# Altium integrated library Cypress Clocks & Buffers Clock Distribution.IntLib: 321 symbols (part 13 of 25)
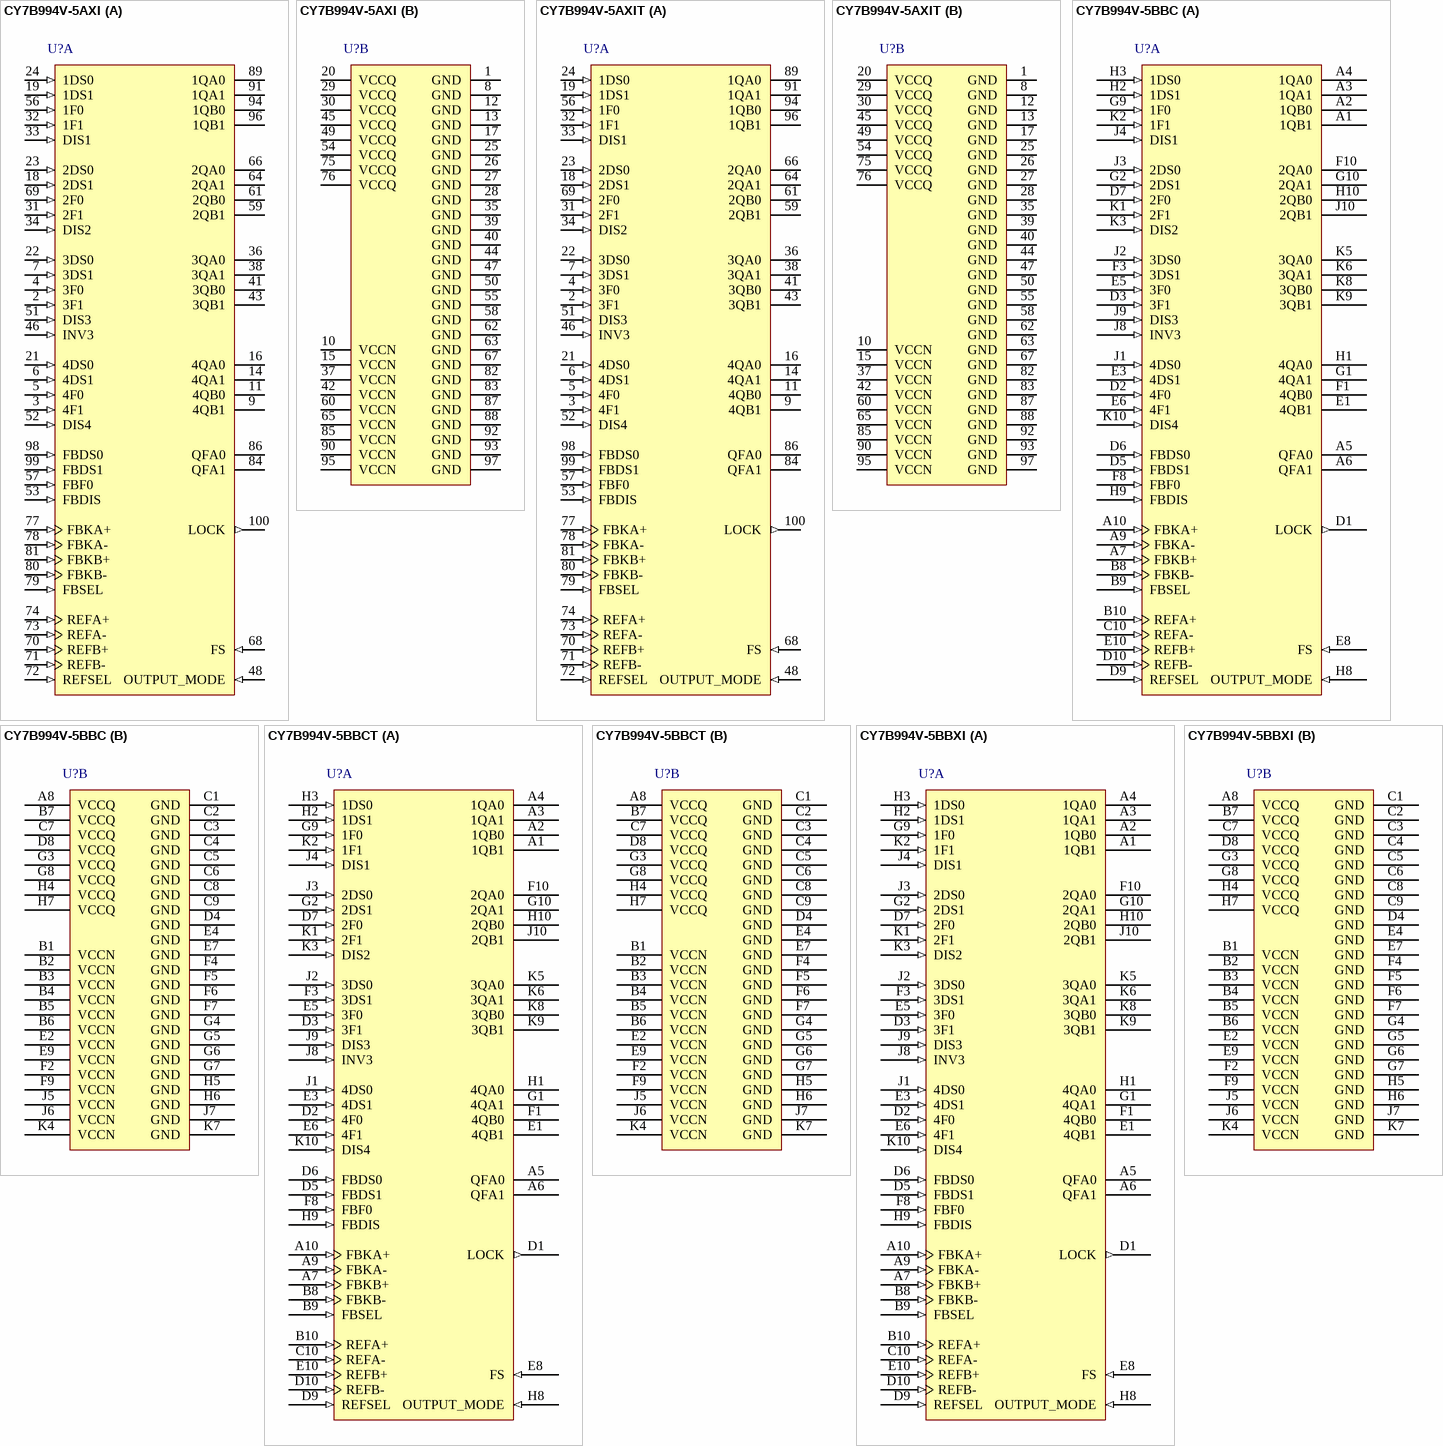
[diagram p28: symbols CY7B994V-5AXI to CY7B994V-5BBXI]

## CY7B994V-5BBCT
designator U?
High Speed Multi Phase PLL Clock Buffer, 3.3 V, 18 Outputs, 24 to 200 MHz, 0 to 70 degC, 100-Pin BGA (BB100), Tape and Reel; Manufacturer: Cypress; PartNumber: CY7B994V-5BBCT; Input Frequency Max. (MHz): 200; Input Frequency Min. (MHz): 24; Max. Operating Voltage (V): 3.6; Min. Operating Voltage (V): 3; No. of Outputs: 18; DatasheetVersion: Rev. *K; PackageVersion: Rev. *E, 08/2012; PackageReference: BB100; PackageDescription: 100-Ball Thin Ball Grid Array, Body 11 x 11 mm, Pitch 1 mm; Supplier 1: Digi-Key; Supplier Part Number 1: CY7B994V-5BBCT-ND; Supplier 2: Mouser; Supplier Part Number 2: 727-CY7B994V5BBCT; Max. Operating Temp. (degreesC): 70; Min. Operating Temp. (degreesC): 0; Output Frequency Max. (MHz): 200; Output Frequency Min. (MHz): 24; Packing: Tape and Reel; Mounting Technology: Surface Mount; ComponentLink1Description: Manufacturer URL; ComponentLink1URL: http://www.cypress.com/; ComponentLink2Description: Datasheet; ComponentLink2URL: http://www.cypress.com/?docID=46967; ComponentLink3Description: Package Specification; ComponentLink3URL: http://www.cypress.com/?docID=39202
footprint CYP-BB100 (BGA, 100-Balls, Body 11x11mm, Pitch 1mm)
part A pins: A1 1QB1 (hiz) "Clock Output. These outputs provide numerous divide and phase select functions determined by the [1:4]DS[0:1] and [1:4]F[0:1] inputs.", A2 1QB0 (hiz) "Clock Output. These outputs provide numerous divide and phase select functions determined by the [1:4]DS[0:1] and [1:4]F[0:1] inputs.", A3 1QA1 (hiz) "Clock Output. These outputs provide numerous divide and phase select functions determined by the [1:4]DS[0:1] and [1:4]F[0:1] inputs.", A4 1QA0 (hiz) "Clock Output. These outputs provide numerous divide and phase select functions determined by the [1:4]DS[0:1] and [1:4]F[0:1] inputs.", A5 QFA0 (hiz) "Clock Feedback Output. This pair of clock outputs is intended to be connected to the FB input. These outputs have numerous divide options and three choices of phase adjustments. The function is determined by the setting of (See Datasheet)", A6 QFA1 (hiz) "Clock Feedback Output. This pair of clock outputs is intended to be connected to the FB input. These outputs have numerous divide options and three choices of phase adjustments. The function is determined by the setting of (See Datasheet)", A7 FBKB+ (in) "Feedback Inputs. One pair of inputs selected by the FBSEL is used to feedback the clock output xQn to the phase detector. The PLL operates such that the rising edges of the reference and feedback signals are aligned in both (See Datasheet)", A9 FBKA- (in) "Feedback Inputs. One pair of inputs selected by the FBSEL is used to feedback the clock output xQn to the phase detector. The PLL operates such that the rising edges of the reference and feedback signals are aligned in both (See Datasheet)", A10 FBKA+ (in) "Feedback Inputs. One pair of inputs selected by the FBSEL is used to feedback the clock output xQn to the phase detector. The PLL operates such that the rising edges of the reference and feedback signals are aligned in both (See Datasheet)", B8 FBKB- (in) "Feedback Inputs. One pair of inputs selected by the FBSEL is used to feedback the clock output xQn to the phase detector. The PLL operates such that the rising edges of the reference and feedback signals are aligned in both (See Datasheet)", B9 FBSEL (in) "Feedback Input Select. When LOW, FBKA inputs are selected. When HIGH, the FBKB inputs are selected. This input has an internal pull-down.", B10 REFA+ (in) "Reference Inputs. These inputs can operate as differential PECL or single-ended TTL. These inputs can operate as differential PECL or single-ended LVTTL input, the complementary input must be left open.", C10 REFA- (in) "Reference Inputs. These inputs can operate as differential PECL or single-ended TTL. These inputs can operate as differential PECL or single-ended LVTTL input, the complementary input must be left open.", D1 LOCK (out) "PLL Lock Indicator. When HIGH, this output indicates the internal PLL is locked to the reference signal. When LOW, the PLL is attempting to acquire lock.", D2 4F0 (in) "Output Phase Function Select. Each pair controls the phase function of the respective bank of outputs (see Table 3 on page 8).", D3 3F1 (in) "Output Phase Function Select. Each pair controls the phase function of the respective bank of outputs (see Table 3 on page 8).", D5 FBDS1 (in) "Feedback Divider Function Select. These inputs determine the function of the QFA0 and QFA1 outputs (see Table 4 on page 8).", D6 FBDS0 (in) "Feedback Divider Function Select. These inputs determine the function of the QFA0 and QFA1 outputs (see Table 4 on page 8).", D7 2F0 (in) "Output Phase Function Select. Each pair controls the phase function of the respective bank of outputs (see Table 3 on page 8).", D9 REFSEL (in) "Reference Select Input. The REFSEL input controls how the reference input is configured. When LOW, it uses the REFA pair as the reference input. When HIGH, it uses the REFB pair as the reference input. This input has an (See Datasheet)", D10 REFB- (in) "Reference Inputs. These inputs can operate as differential PECL or single-ended TTL. These inputs can operate as differential PECL or single-ended LVTTL input, the complementary input must be left open.", E1 4QB1 (hiz) "Clock Output. These outputs provide numerous divide and phase select functions determined by the [1:4]DS[0:1] and [1:4]F[0:1] inputs.", E3 4DS1 (in) "Output Divider Function Select. Each pair controls the divider function of the respective bank of outputs (see Table 4 on page 8).", E5 3F0 (in) "Output Phase Function Select. Each pair controls the phase function of the respective bank of outputs (see Table 3 on page 8).", E6 4F1 (in) "Output Phase Function Select. Each pair controls the phase function of the respective bank of outputs (see Table 3 on page 8).", E8 FS (in) "Frequency Select. This input must be set according to the nominal frequency (fNOM) (see Table 1 on page 7).", E10 REFB+ (in) "Reference Inputs. These inputs can operate as differential PECL or single-ended TTL. These inputs can operate as differential PECL or single-ended LVTTL input, the complementary input must be left open.", F1 4QB0 (hiz) "Clock Output. These outputs provide numerous divide and phase select functions determined by the [1:4]DS[0:1] and [1:4]F[0:1] inputs.", F3 3DS1 (in) "Output Divider Function Select. Each pair controls the divider function of the respective bank of outputs (see Table 4 on page 8).", F8 FBF0 (in) "Feedback Output Phase Function Select. This input determines the phase function of the Feedback bank’s QFA[0:1] outputs (see Table 3 on page 8).", F10 2QA0 (hiz) "Clock Output. These outputs provide numerous divide and phase select functions determined by the [1:4]DS[0:1] and [1:4]F[0:1] inputs.", G1 4QA1 (hiz) "Clock Output. These outputs provide numerous divide and phase select functions determined by the [1:4]DS[0:1] and [1:4]F[0:1] inputs.", G2 2DS1 (in) "Output Divider Function Select. Each pair controls the divider function of the respective bank of outputs (see Table 4 on page 8).", G9 1F0 (in) "Output Phase Function Select. Each pair controls the phase function of the respective bank of outputs (see Table 3 on page 8).", G10 2QA1 (hiz) "Clock Output. These outputs provide numerous divide and phase select functions determined by the [1:4]DS[0:1] and [1:4]F[0:1] inputs.", H1 4QA0 (hiz) "Clock Output. These outputs provide numerous divide and phase select functions determined by the [1:4]DS[0:1] and [1:4]F[0:1] inputs.", H2 1DS1 (in) "Output Divider Function Select. Each pair controls the divider function of the respective bank of outputs (see Table 4 on page 8).", H3 1DS0 (in) "Output Divider Function Select. Each pair controls the divider function of the respective bank of outputs (see Table 4 on page 8).", H8 OUTPUT_MODE (in) "Output Mode. This pin determines the clock outputs’ disable state. When this input is HIGH, the clock outputs disable to high impedance (High Z). When this input is LOW, the clock outputs disable to “HOLD-OFF” (See Datasheet)", H9 FBDIS (in) "Feedback Disable. This input controls the state of QFA[0:1]. When HIGH, the QFA[0:1] is disabled to the “HOLD-OFF” or “High Z” state; the disable state is determined by OUTPUT_MODE. When LOW, the QFA[0:1] is (See Datasheet)", H10 2QB0 (hiz) "Clock Output. These outputs provide numerous divide and phase select functions determined by the [1:4]DS[0:1] and [1:4]F[0:1] inputs.", J1 4DS0 (in) "Output Divider Function Select. Each pair controls the divider function of the respective bank of outputs (see Table 4 on page 8).", J2 3DS0 (in) "Output Divider Function Select. Each pair controls the divider function of the respective bank of outputs (see Table 4 on page 8).", J3 2DS0 (in) "Output Divider Function Select. Each pair controls the divider function of the respective bank of outputs (see Table 4 on page 8).", J4 DIS1 (in) "Output Disable. Each input controls the state of the respective output bank. When HIGH, the output bank is disabled to the “HOLD-OFF” or “High Z” state; the disable state is determined by OUTPUT_MODE. When L(See Datasheet)", J8 INV3 (in) "nvert Mode. This input only affects Bank 3. When this input is LOW, each matched output pair becomes complementary (3QA0+, 3QA1-, 3QB0+, 3QB1-). When this input is HIGH, all four outputs in the same bank are inverted. When (See Datasheet)", J9 DIS3 (in) "Output Disable. Each input controls the state of the respective output bank. When HIGH, the output bank is disabled to the “HOLD-OFF” or “High Z” state; the disable state is determined by OUTPUT_MODE. When L(See Datasheet)", J10 2QB1 (hiz) "Clock Output. These outputs provide numerous divide and phase select functions determined by the [1:4]DS[0:1] and [1:4]F[0:1] inputs.", K1 2F1 (in) "Output Phase Function Select. Each pair controls the phase function of the respective bank of outputs (see Table 3 on page 8).", K2 1F1 (in) "Output Phase Function Select. Each pair controls the phase function of the respective bank of outputs (see Table 3 on page 8).", K3 DIS2 (in) "Output Disable. Each input controls the state of the respective output bank. When HIGH, the output bank is disabled to the “HOLD-OFF” or “High Z” state; the disable state is determined by OUTPUT_MODE. When L(See Datasheet)", K5 3QA0 (hiz) "Clock Output. These outputs provide numerous divide and phase select functions determined by the [1:4]DS[0:1] and [1:4]F[0:1] inputs.", K6 3QA1 (hiz) "Clock Output. These outputs provide numerous divide and phase select functions determined by the [1:4]DS[0:1] and [1:4]F[0:1] inputs.", K8 3QB0 (hiz) "Clock Output. These outputs provide numerous divide and phase select functions determined by the [1:4]DS[0:1] and [1:4]F[0:1] inputs.", K9 3QB1 (hiz) "Clock Output. These outputs provide numerous divide and phase select functions determined by the [1:4]DS[0:1] and [1:4]F[0:1] inputs.", K10 DIS4 (in) "Output Disable. Each input controls the state of the respective output bank. When HIGH, the output bank is disabled to the “HOLD-OFF” or “High Z” state; the disable state is determined by OUTPUT_MODE. When L(See Datasheet)"
part B pins: A8 VCCQ (power) "Internal Power. Power supply for the internal circuitry.", B1 VCCN (power) "Output Buffer Power. Power supply for each output pair.", B2 VCCN (power) "Output Buffer Power. Power supply for each output pair.", B3 VCCN (power) "Output Buffer Power. Power supply for each output pair.", B4 VCCN (power) "Output Buffer Power. Power supply for each output pair.", B5 VCCN (power) "Output Buffer Power. Power supply for each output pair.", B6 VCCN (power) "Output Buffer Power. Power supply for each output pair.", B7 VCCQ (power) "Internal Power. Power supply for the internal circuitry.", C1 GND (power) "Device Ground.", C2 GND (power) "Device Ground.", C3 GND (power) "Device Ground.", C4 GND (power) "Device Ground.", C5 GND (power) "Device Ground.", C6 GND (power) "Device Ground.", C7 VCCQ (power) "Internal Power. Power supply for the internal circuitry.", C8 GND (power) "Device Ground.", C9 GND (power) "Device Ground.", D4 GND (power) "Device Ground.", D8 VCCQ (power) "Internal Power. Power supply for the internal circuitry.", E2 VCCN (power) "Output Buffer Power. Power supply for each output pair.", E4 GND (power) "Device Ground.", E7 GND (power) "Device Ground.", E9 VCCN (power) "Output Buffer Power. Power supply for each output pair.", F2 VCCN (power) "Output Buffer Power. Power supply for each output pair.", F4 GND (power) "Device Ground.", F5 GND (power) "Device Ground.", F6 GND (power) "Device Ground.", F7 GND (power) "Device Ground.", F9 VCCN (power) "Output Buffer Power. Power supply for each output pair.", G3 VCCQ (power) "Internal Power. Power supply for the internal circuitry.", G4 GND (power) "Device Ground.", G5 GND (power) "Device Ground.", G6 GND (power) "Device Ground.", G7 GND (power) "Device Ground.", G8 VCCQ (power) "Internal Power. Power supply for the internal circuitry.", H4 VCCQ (power) "Internal Power. Power supply for the internal circuitry.", H5 GND (power) "Device Ground.", H6 GND (power) "Device Ground.", H7 VCCQ (power) "Internal Power. Power supply for the internal circuitry.", J5 VCCN (power) "Output Buffer Power. Power supply for each output pair.", J6 VCCN (power) "Output Buffer Power. Power supply for each output pair.", J7 GND (power) "Device Ground.", K4 VCCN (power) "Output Buffer Power. Power supply for each output pair.", K7 GND (power) "Device Ground."

## CY7B994V-5BBXI
designator U?
High Speed Multi Phase PLL Clock Buffer, 3.3 V, 18 Outputs, 24 to 200 MHz, -40 to 85 degC, 100-Pin BGA (BB100),; Manufacturer: Cypress; PartNumber: CY7B994V-5BBXI; Input Frequency Max. (MHz): 200; Input Frequency Min. (MHz): 24; Max. Operating Voltage (V): 3.6; Min. Operating Voltage (V): 3; No. of Outputs: 18; DatasheetVersion: Rev. *K; PackageVersion: Rev. *E, 08/2012; PackageReference: BB100; PackageDescription: 100-Ball Thin Ball Grid Array, Body 11 x 11 mm, Pitch 1 mm; Supplier 1: Digi-Key; Supplier Part Number 1: CY7B994V-5BBXI-ND; Supplier 2: Mouser; Supplier Part Number 2: 727-CY7B994V5BBXI; Max. Operating Temp. (degreesC): 85; Min. Operating Temp. (degreesC): -40; Output Frequency Max. (MHz): 200; Output Frequency Min. (MHz): 24; RoHS: Pb-Free; Mounting Technology: Surface Mount; ComponentLink1Description: Manufacturer URL; ComponentLink1URL: http://www.cypress.com/; ComponentLink2Description: Datasheet; ComponentLink2URL: http://www.cypress.com/?docID=46967; ComponentLink3Description: Package Specification; ComponentLink3URL: http://www.cypress.com/?docID=39202
footprint CYP-BB100 (BGA, 100-Balls, Body 11x11mm, Pitch 1mm)
part A pins: A1 1QB1 (hiz) "Clock Output. These outputs provide numerous divide and phase select functions determined by the [1:4]DS[0:1] and [1:4]F[0:1] inputs.", A2 1QB0 (hiz) "Clock Output. These outputs provide numerous divide and phase select functions determined by the [1:4]DS[0:1] and [1:4]F[0:1] inputs.", A3 1QA1 (hiz) "Clock Output. These outputs provide numerous divide and phase select functions determined by the [1:4]DS[0:1] and [1:4]F[0:1] inputs.", A4 1QA0 (hiz) "Clock Output. These outputs provide numerous divide and phase select functions determined by the [1:4]DS[0:1] and [1:4]F[0:1] inputs.", A5 QFA0 (hiz) "Clock Feedback Output. This pair of clock outputs is intended to be connected to the FB input. These outputs have numerous divide options and three choices of phase adjustments. The function is determined by the setting of (See Datasheet)", A6 QFA1 (hiz) "Clock Feedback Output. This pair of clock outputs is intended to be connected to the FB input. These outputs have numerous divide options and three choices of phase adjustments. The function is determined by the setting of (See Datasheet)", A7 FBKB+ (in) "Feedback Inputs. One pair of inputs selected by the FBSEL is used to feedback the clock output xQn to the phase detector. The PLL operates such that the rising edges of the reference and feedback signals are aligned in both (See Datasheet)", A9 FBKA- (in) "Feedback Inputs. One pair of inputs selected by the FBSEL is used to feedback the clock output xQn to the phase detector. The PLL operates such that the rising edges of the reference and feedback signals are aligned in both (See Datasheet)", A10 FBKA+ (in) "Feedback Inputs. One pair of inputs selected by the FBSEL is used to feedback the clock output xQn to the phase detector. The PLL operates such that the rising edges of the reference and feedback signals are aligned in both (See Datasheet)", B8 FBKB- (in) "Feedback Inputs. One pair of inputs selected by the FBSEL is used to feedback the clock output xQn to the phase detector. The PLL operates such that the rising edges of the reference and feedback signals are aligned in both (See Datasheet)", B9 FBSEL (in) "Feedback Input Select. When LOW, FBKA inputs are selected. When HIGH, the FBKB inputs are selected. This input has an internal pull-down.", B10 REFA+ (in) "Reference Inputs. These inputs can operate as differential PECL or single-ended TTL. These inputs can operate as differential PECL or single-ended LVTTL input, the complementary input must be left open.", C10 REFA- (in) "Reference Inputs. These inputs can operate as differential PECL or single-ended TTL. These inputs can operate as differential PECL or single-ended LVTTL input, the complementary input must be left open.", D1 LOCK (out) "PLL Lock Indicator. When HIGH, this output indicates the internal PLL is locked to the reference signal. When LOW, the PLL is attempting to acquire lock.", D2 4F0 (in) "Output Phase Function Select. Each pair controls the phase function of the respective bank of outputs (see Table 3 on page 8).", D3 3F1 (in) "Output Phase Function Select. Each pair controls the phase function of the respective bank of outputs (see Table 3 on page 8).", D5 FBDS1 (in) "Feedback Divider Function Select. These inputs determine the function of the QFA0 and QFA1 outputs (see Table 4 on page 8).", D6 FBDS0 (in) "Feedback Divider Function Select. These inputs determine the function of the QFA0 and QFA1 outputs (see Table 4 on page 8).", D7 2F0 (in) "Output Phase Function Select. Each pair controls the phase function of the respective bank of outputs (see Table 3 on page 8).", D9 REFSEL (in) "Reference Select Input. The REFSEL input controls how the reference input is configured. When LOW, it uses the REFA pair as the reference input. When HIGH, it uses the REFB pair as the reference input. This input has an (See Datasheet)", D10 REFB- (in) "Reference Inputs. These inputs can operate as differential PECL or single-ended TTL. These inputs can operate as differential PECL or single-ended LVTTL input, the complementary input must be left open.", E1 4QB1 (hiz) "Clock Output. These outputs provide numerous divide and phase select functions determined by the [1:4]DS[0:1] and [1:4]F[0:1] inputs.", E3 4DS1 (in) "Output Divider Function Select. Each pair controls the divider function of the respective bank of outputs (see Table 4 on page 8).", E5 3F0 (in) "Output Phase Function Select. Each pair controls the phase function of the respective bank of outputs (see Table 3 on page 8).", E6 4F1 (in) "Output Phase Function Select. Each pair controls the phase function of the respective bank of outputs (see Table 3 on page 8).", E8 FS (in) "Frequency Select. This input must be set according to the nominal frequency (fNOM) (see Table 1 on page 7).", E10 REFB+ (in) "Reference Inputs. These inputs can operate as differential PECL or single-ended TTL. These inputs can operate as differential PECL or single-ended LVTTL input, the complementary input must be left open.", F1 4QB0 (hiz) "Clock Output. These outputs provide numerous divide and phase select functions determined by the [1:4]DS[0:1] and [1:4]F[0:1] inputs.", F3 3DS1 (in) "Output Divider Function Select. Each pair controls the divider function of the respective bank of outputs (see Table 4 on page 8).", F8 FBF0 (in) "Feedback Output Phase Function Select. This input determines the phase function of the Feedback bank’s QFA[0:1] outputs (see Table 3 on page 8).", F10 2QA0 (hiz) "Clock Output. These outputs provide numerous divide and phase select functions determined by the [1:4]DS[0:1] and [1:4]F[0:1] inputs.", G1 4QA1 (hiz) "Clock Output. These outputs provide numerous divide and phase select functions determined by the [1:4]DS[0:1] and [1:4]F[0:1] inputs.", G2 2DS1 (in) "Output Divider Function Select. Each pair controls the divider function of the respective bank of outputs (see Table 4 on page 8).", G9 1F0 (in) "Output Phase Function Select. Each pair controls the phase function of the respective bank of outputs (see Table 3 on page 8).", G10 2QA1 (hiz) "Clock Output. These outputs provide numerous divide and phase select functions determined by the [1:4]DS[0:1] and [1:4]F[0:1] inputs.", H1 4QA0 (hiz) "Clock Output. These outputs provide numerous divide and phase select functions determined by the [1:4]DS[0:1] and [1:4]F[0:1] inputs.", H2 1DS1 (in) "Output Divider Function Select. Each pair controls the divider function of the respective bank of outputs (see Table 4 on page 8).", H3 1DS0 (in) "Output Divider Function Select. Each pair controls the divider function of the respective bank of outputs (see Table 4 on page 8).", H8 OUTPUT_MODE (in) "Output Mode. This pin determines the clock outputs’ disable state. When this input is HIGH, the clock outputs disable to high impedance (High Z). When this input is LOW, the clock outputs disable to “HOLD-OFF” (See Datasheet)", H9 FBDIS (in) "Feedback Disable. This input controls the state of QFA[0:1]. When HIGH, the QFA[0:1] is disabled to the “HOLD-OFF” or “High Z” state; the disable state is determined by OUTPUT_MODE. When LOW, the QFA[0:1] is (See Datasheet)", H10 2QB0 (hiz) "Clock Output. These outputs provide numerous divide and phase select functions determined by the [1:4]DS[0:1] and [1:4]F[0:1] inputs.", J1 4DS0 (in) "Output Divider Function Select. Each pair controls the divider function of the respective bank of outputs (see Table 4 on page 8).", J2 3DS0 (in) "Output Divider Function Select. Each pair controls the divider function of the respective bank of outputs (see Table 4 on page 8).", J3 2DS0 (in) "Output Divider Function Select. Each pair controls the divider function of the respective bank of outputs (see Table 4 on page 8).", J4 DIS1 (in) "Output Disable. Each input controls the state of the respective output bank. When HIGH, the output bank is disabled to the “HOLD-OFF” or “High Z” state; the disable state is determined by OUTPUT_MODE. When L(See Datasheet)", J8 INV3 (in) "nvert Mode. This input only affects Bank 3. When this input is LOW, each matched output pair becomes complementary (3QA0+, 3QA1-, 3QB0+, 3QB1-). When this input is HIGH, all four outputs in the same bank are inverted. When (See Datasheet)", J9 DIS3 (in) "Output Disable. Each input controls the state of the respective output bank. When HIGH, the output bank is disabled to the “HOLD-OFF” or “High Z” state; the disable state is determined by OUTPUT_MODE. When L(See Datasheet)", J10 2QB1 (hiz) "Clock Output. These outputs provide numerous divide and phase select functions determined by the [1:4]DS[0:1] and [1:4]F[0:1] inputs.", K1 2F1 (in) "Output Phase Function Select. Each pair controls the phase function of the respective bank of outputs (see Table 3 on page 8).", K2 1F1 (in) "Output Phase Function Select. Each pair controls the phase function of the respective bank of outputs (see Table 3 on page 8).", K3 DIS2 (in) "Output Disable. Each input controls the state of the respective output bank. When HIGH, the output bank is disabled to the “HOLD-OFF” or “High Z” state; the disable state is determined by OUTPUT_MODE. When L(See Datasheet)", K5 3QA0 (hiz) "Clock Output. These outputs provide numerous divide and phase select functions determined by the [1:4]DS[0:1] and [1:4]F[0:1] inputs.", K6 3QA1 (hiz) "Clock Output. These outputs provide numerous divide and phase select functions determined by the [1:4]DS[0:1] and [1:4]F[0:1] inputs.", K8 3QB0 (hiz) "Clock Output. These outputs provide numerous divide and phase select functions determined by the [1:4]DS[0:1] and [1:4]F[0:1] inputs.", K9 3QB1 (hiz) "Clock Output. These outputs provide numerous divide and phase select functions determined by the [1:4]DS[0:1] and [1:4]F[0:1] inputs.", K10 DIS4 (in) "Output Disable. Each input controls the state of the respective output bank. When HIGH, the output bank is disabled to the “HOLD-OFF” or “High Z” state; the disable state is determined by OUTPUT_MODE. When L(See Datasheet)"
part B pins: A8 VCCQ (power) "Internal Power. Power supply for the internal circuitry.", B1 VCCN (power) "Output Buffer Power. Power supply for each output pair.", B2 VCCN (power) "Output Buffer Power. Power supply for each output pair.", B3 VCCN (power) "Output Buffer Power. Power supply for each output pair.", B4 VCCN (power) "Output Buffer Power. Power supply for each output pair.", B5 VCCN (power) "Output Buffer Power. Power supply for each output pair.", B6 VCCN (power) "Output Buffer Power. Power supply for each output pair.", B7 VCCQ (power) "Internal Power. Power supply for the internal circuitry.", C1 GND (power) "Device Ground.", C2 GND (power) "Device Ground.", C3 GND (power) "Device Ground.", C4 GND (power) "Device Ground.", C5 GND (power) "Device Ground.", C6 GND (power) "Device Ground.", C7 VCCQ (power) "Internal Power. Power supply for the internal circuitry.", C8 GND (power) "Device Ground.", C9 GND (power) "Device Ground.", D4 GND (power) "Device Ground.", D8 VCCQ (power) "Internal Power. Power supply for the internal circuitry.", E2 VCCN (power) "Output Buffer Power. Power supply for each output pair.", E4 GND (power) "Device Ground.", E7 GND (power) "Device Ground.", E9 VCCN (power) "Output Buffer Power. Power supply for each output pair.", F2 VCCN (power) "Output Buffer Power. Power supply for each output pair.", F4 GND (power) "Device Ground.", F5 GND (power) "Device Ground.", F6 GND (power) "Device Ground.", F7 GND (power) "Device Ground.", F9 VCCN (power) "Output Buffer Power. Power supply for each output pair.", G3 VCCQ (power) "Internal Power. Power supply for the internal circuitry.", G4 GND (power) "Device Ground.", G5 GND (power) "Device Ground.", G6 GND (power) "Device Ground.", G7 GND (power) "Device Ground.", G8 VCCQ (power) "Internal Power. Power supply for the internal circuitry.", H4 VCCQ (power) "Internal Power. Power supply for the internal circuitry.", H5 GND (power) "Device Ground.", H6 GND (power) "Device Ground.", H7 VCCQ (power) "Internal Power. Power supply for the internal circuitry.", J5 VCCN (power) "Output Buffer Power. Power supply for each output pair.", J6 VCCN (power) "Output Buffer Power. Power supply for each output pair.", J7 GND (power) "Device Ground.", K4 VCCN (power) "Output Buffer Power. Power supply for each output pair.", K7 GND (power) "Device Ground."

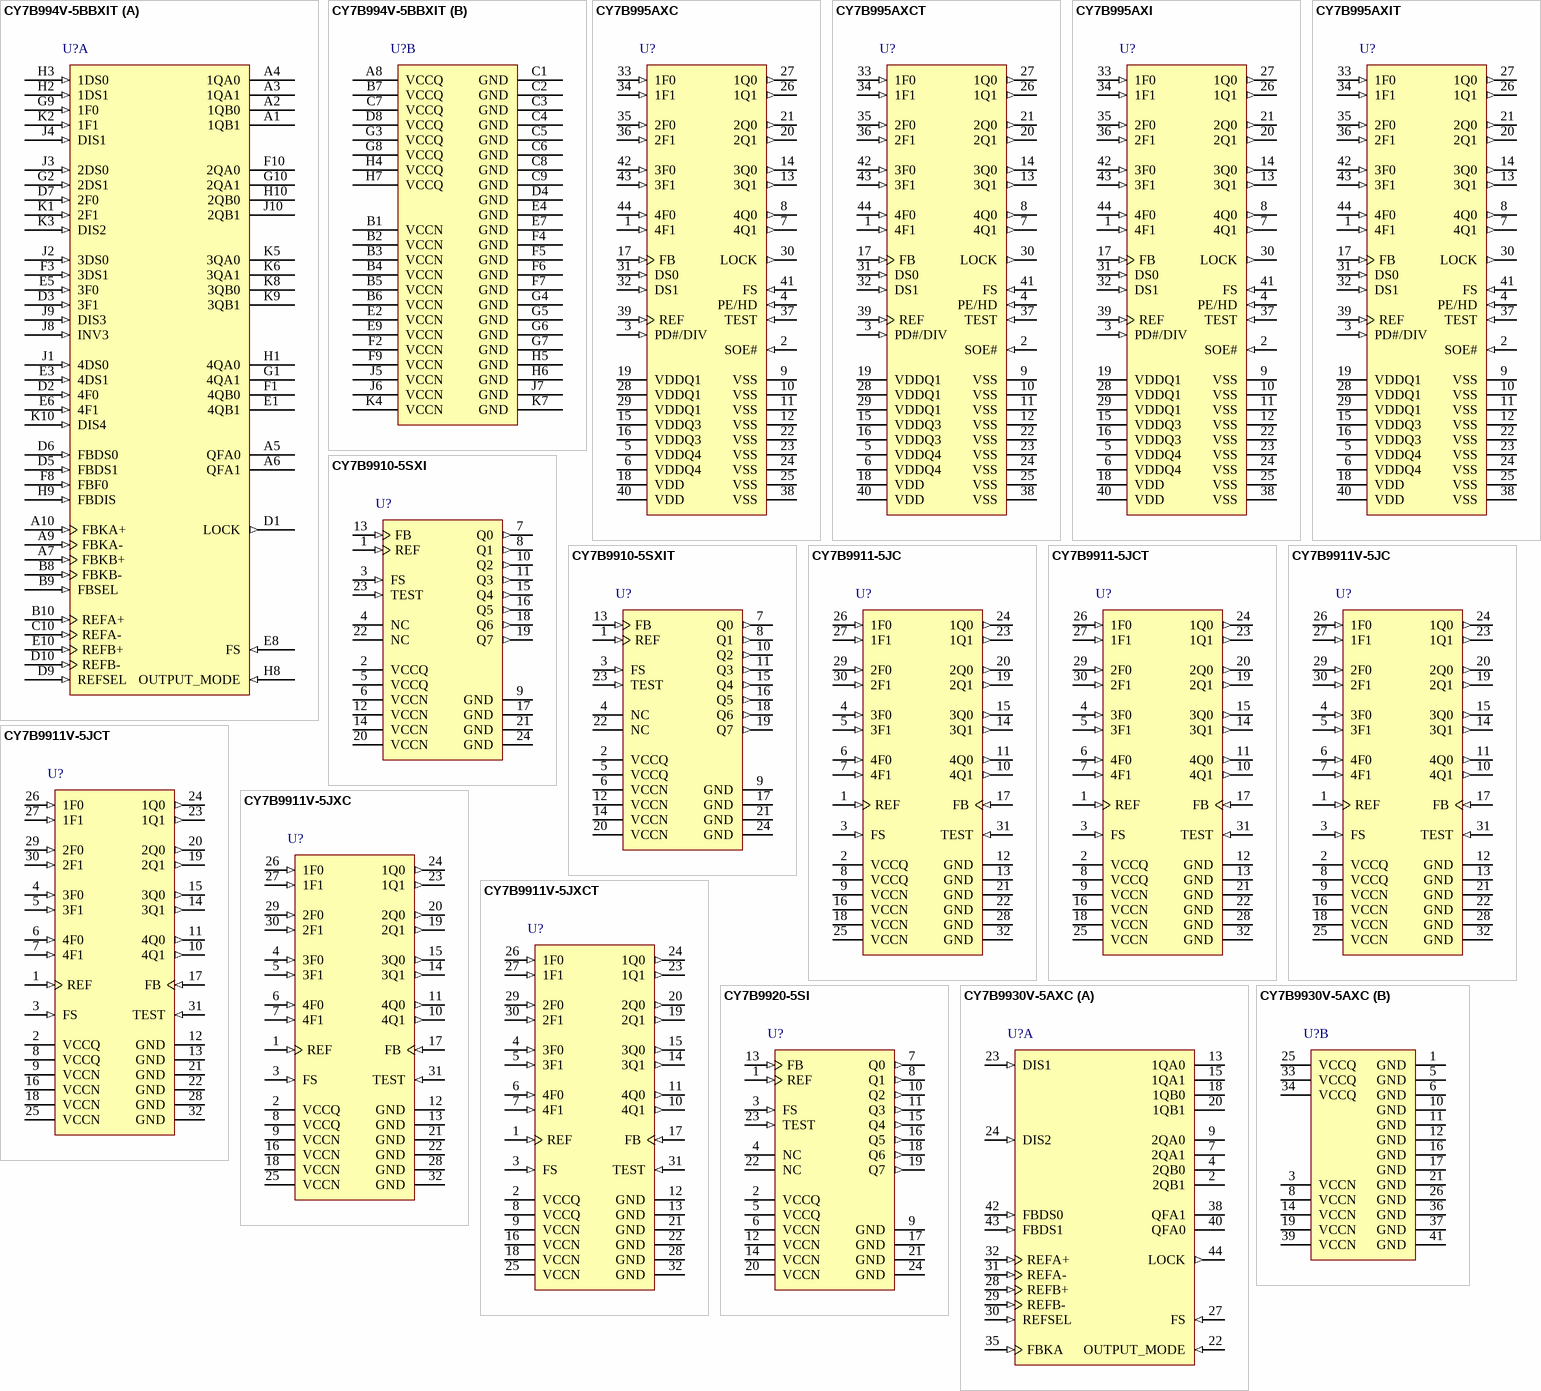
[diagram p8: symbols CY7B994V-5BBXIT to CY7B9930V-5AXC]

## CY7B994V-5BBXIT
designator U?
High Speed Multi Phase PLL Clock Buffer, 3.3 V, 18 Outputs, 24 to 200 MHz, -40 to 85 degC, 100-Pin BGA (BB100), Tape and Reel; Manufacturer: Cypress; PartNumber: CY7B994V-5BBXIT; Input Frequency Max. (MHz): 200; Input Frequency Min. (MHz): 24; Max. Operating Voltage (V): 3.6; Min. Operating Voltage (V): 3; No. of Outputs: 18; DatasheetVersion: Rev. *K; PackageVersion: Rev. *E, 08/2012; PackageReference: BB100; PackageDescription: 100-Ball Thin Ball Grid Array, Body 11 x 11 mm, Pitch 1 mm; Supplier 1: Digi-Key; Supplier Part Number 1: CY7B994V-5BBXIT-ND; Supplier 2: Mouser; Supplier Part Number 2: 727-CY7B994V5BBXIT; Max. Operating Temp. (degreesC): 85; Min. Operating Temp. (degreesC): -40; Output Frequency Max. (MHz): 200; Output Frequency Min. (MHz): 24; Packing: Tape and Reel; RoHS: Pb-Free; Mounting Technology: Surface Mount; ComponentLink1Description: Manufacturer URL; ComponentLink1URL: http://www.cypress.com/; ComponentLink2Description: Datasheet; ComponentLink2URL: http://www.cypress.com/?docID=46967; ComponentLink3Description: Package Specification; ComponentLink3URL: http://www.cypress.com/?docID=39202
footprint CYP-BB100 (BGA, 100-Balls, Body 11x11mm, Pitch 1mm)
part A pins: A1 1QB1 (hiz) "Clock Output. These outputs provide numerous divide and phase select functions determined by the [1:4]DS[0:1] and [1:4]F[0:1] inputs.", A2 1QB0 (hiz) "Clock Output. These outputs provide numerous divide and phase select functions determined by the [1:4]DS[0:1] and [1:4]F[0:1] inputs.", A3 1QA1 (hiz) "Clock Output. These outputs provide numerous divide and phase select functions determined by the [1:4]DS[0:1] and [1:4]F[0:1] inputs.", A4 1QA0 (hiz) "Clock Output. These outputs provide numerous divide and phase select functions determined by the [1:4]DS[0:1] and [1:4]F[0:1] inputs.", A5 QFA0 (hiz) "Clock Feedback Output. This pair of clock outputs is intended to be connected to the FB input. These outputs have numerous divide options and three choices of phase adjustments. The function is determined by the setting of (See Datasheet)", A6 QFA1 (hiz) "Clock Feedback Output. This pair of clock outputs is intended to be connected to the FB input. These outputs have numerous divide options and three choices of phase adjustments. The function is determined by the setting of (See Datasheet)", A7 FBKB+ (in) "Feedback Inputs. One pair of inputs selected by the FBSEL is used to feedback the clock output xQn to the phase detector. The PLL operates such that the rising edges of the reference and feedback signals are aligned in both (See Datasheet)", A9 FBKA- (in) "Feedback Inputs. One pair of inputs selected by the FBSEL is used to feedback the clock output xQn to the phase detector. The PLL operates such that the rising edges of the reference and feedback signals are aligned in both (See Datasheet)", A10 FBKA+ (in) "Feedback Inputs. One pair of inputs selected by the FBSEL is used to feedback the clock output xQn to the phase detector. The PLL operates such that the rising edges of the reference and feedback signals are aligned in both (See Datasheet)", B8 FBKB- (in) "Feedback Inputs. One pair of inputs selected by the FBSEL is used to feedback the clock output xQn to the phase detector. The PLL operates such that the rising edges of the reference and feedback signals are aligned in both (See Datasheet)", B9 FBSEL (in) "Feedback Input Select. When LOW, FBKA inputs are selected. When HIGH, the FBKB inputs are selected. This input has an internal pull-down.", B10 REFA+ (in) "Reference Inputs. These inputs can operate as differential PECL or single-ended TTL. These inputs can operate as differential PECL or single-ended LVTTL input, the complementary input must be left open.", C10 REFA- (in) "Reference Inputs. These inputs can operate as differential PECL or single-ended TTL. These inputs can operate as differential PECL or single-ended LVTTL input, the complementary input must be left open.", D1 LOCK (out) "PLL Lock Indicator. When HIGH, this output indicates the internal PLL is locked to the reference signal. When LOW, the PLL is attempting to acquire lock.", D2 4F0 (in) "Output Phase Function Select. Each pair controls the phase function of the respective bank of outputs (see Table 3 on page 8).", D3 3F1 (in) "Output Phase Function Select. Each pair controls the phase function of the respective bank of outputs (see Table 3 on page 8).", D5 FBDS1 (in) "Feedback Divider Function Select. These inputs determine the function of the QFA0 and QFA1 outputs (see Table 4 on page 8).", D6 FBDS0 (in) "Feedback Divider Function Select. These inputs determine the function of the QFA0 and QFA1 outputs (see Table 4 on page 8).", D7 2F0 (in) "Output Phase Function Select. Each pair controls the phase function of the respective bank of outputs (see Table 3 on page 8).", D9 REFSEL (in) "Reference Select Input. The REFSEL input controls how the reference input is configured. When LOW, it uses the REFA pair as the reference input. When HIGH, it uses the REFB pair as the reference input. This input has an (See Datasheet)", D10 REFB- (in) "Reference Inputs. These inputs can operate as differential PECL or single-ended TTL. These inputs can operate as differential PECL or single-ended LVTTL input, the complementary input must be left open.", E1 4QB1 (hiz) "Clock Output. These outputs provide numerous divide and phase select functions determined by the [1:4]DS[0:1] and [1:4]F[0:1] inputs.", E3 4DS1 (in) "Output Divider Function Select. Each pair controls the divider function of the respective bank of outputs (see Table 4 on page 8).", E5 3F0 (in) "Output Phase Function Select. Each pair controls the phase function of the respective bank of outputs (see Table 3 on page 8).", E6 4F1 (in) "Output Phase Function Select. Each pair controls the phase function of the respective bank of outputs (see Table 3 on page 8).", E8 FS (in) "Frequency Select. This input must be set according to the nominal frequency (fNOM) (see Table 1 on page 7).", E10 REFB+ (in) "Reference Inputs. These inputs can operate as differential PECL or single-ended TTL. These inputs can operate as differential PECL or single-ended LVTTL input, the complementary input must be left open.", F1 4QB0 (hiz) "Clock Output. These outputs provide numerous divide and phase select functions determined by the [1:4]DS[0:1] and [1:4]F[0:1] inputs.", F3 3DS1 (in) "Output Divider Function Select. Each pair controls the divider function of the respective bank of outputs (see Table 4 on page 8).", F8 FBF0 (in) "Feedback Output Phase Function Select. This input determines the phase function of the Feedback bank’s QFA[0:1] outputs (see Table 3 on page 8).", F10 2QA0 (hiz) "Clock Output. These outputs provide numerous divide and phase select functions determined by the [1:4]DS[0:1] and [1:4]F[0:1] inputs.", G1 4QA1 (hiz) "Clock Output. These outputs provide numerous divide and phase select functions determined by the [1:4]DS[0:1] and [1:4]F[0:1] inputs.", G2 2DS1 (in) "Output Divider Function Select. Each pair controls the divider function of the respective bank of outputs (see Table 4 on page 8).", G9 1F0 (in) "Output Phase Function Select. Each pair controls the phase function of the respective bank of outputs (see Table 3 on page 8).", G10 2QA1 (hiz) "Clock Output. These outputs provide numerous divide and phase select functions determined by the [1:4]DS[0:1] and [1:4]F[0:1] inputs.", H1 4QA0 (hiz) "Clock Output. These outputs provide numerous divide and phase select functions determined by the [1:4]DS[0:1] and [1:4]F[0:1] inputs.", H2 1DS1 (in) "Output Divider Function Select. Each pair controls the divider function of the respective bank of outputs (see Table 4 on page 8).", H3 1DS0 (in) "Output Divider Function Select. Each pair controls the divider function of the respective bank of outputs (see Table 4 on page 8).", H8 OUTPUT_MODE (in) "Output Mode. This pin determines the clock outputs’ disable state. When this input is HIGH, the clock outputs disable to high impedance (High Z). When this input is LOW, the clock outputs disable to “HOLD-OFF” (See Datasheet)", H9 FBDIS (in) "Feedback Disable. This input controls the state of QFA[0:1]. When HIGH, the QFA[0:1] is disabled to the “HOLD-OFF” or “High Z” state; the disable state is determined by OUTPUT_MODE. When LOW, the QFA[0:1] is (See Datasheet)", H10 2QB0 (hiz) "Clock Output. These outputs provide numerous divide and phase select functions determined by the [1:4]DS[0:1] and [1:4]F[0:1] inputs.", J1 4DS0 (in) "Output Divider Function Select. Each pair controls the divider function of the respective bank of outputs (see Table 4 on page 8).", J2 3DS0 (in) "Output Divider Function Select. Each pair controls the divider function of the respective bank of outputs (see Table 4 on page 8).", J3 2DS0 (in) "Output Divider Function Select. Each pair controls the divider function of the respective bank of outputs (see Table 4 on page 8).", J4 DIS1 (in) "Output Disable. Each input controls the state of the respective output bank. When HIGH, the output bank is disabled to the “HOLD-OFF” or “High Z” state; the disable state is determined by OUTPUT_MODE. When L(See Datasheet)", J8 INV3 (in) "nvert Mode. This input only affects Bank 3. When this input is LOW, each matched output pair becomes complementary (3QA0+, 3QA1-, 3QB0+, 3QB1-). When this input is HIGH, all four outputs in the same bank are inverted. When (See Datasheet)", J9 DIS3 (in) "Output Disable. Each input controls the state of the respective output bank. When HIGH, the output bank is disabled to the “HOLD-OFF” or “High Z” state; the disable state is determined by OUTPUT_MODE. When L(See Datasheet)", J10 2QB1 (hiz) "Clock Output. These outputs provide numerous divide and phase select functions determined by the [1:4]DS[0:1] and [1:4]F[0:1] inputs.", K1 2F1 (in) "Output Phase Function Select. Each pair controls the phase function of the respective bank of outputs (see Table 3 on page 8).", K2 1F1 (in) "Output Phase Function Select. Each pair controls the phase function of the respective bank of outputs (see Table 3 on page 8).", K3 DIS2 (in) "Output Disable. Each input controls the state of the respective output bank. When HIGH, the output bank is disabled to the “HOLD-OFF” or “High Z” state; the disable state is determined by OUTPUT_MODE. When L(See Datasheet)", K5 3QA0 (hiz) "Clock Output. These outputs provide numerous divide and phase select functions determined by the [1:4]DS[0:1] and [1:4]F[0:1] inputs.", K6 3QA1 (hiz) "Clock Output. These outputs provide numerous divide and phase select functions determined by the [1:4]DS[0:1] and [1:4]F[0:1] inputs.", K8 3QB0 (hiz) "Clock Output. These outputs provide numerous divide and phase select functions determined by the [1:4]DS[0:1] and [1:4]F[0:1] inputs.", K9 3QB1 (hiz) "Clock Output. These outputs provide numerous divide and phase select functions determined by the [1:4]DS[0:1] and [1:4]F[0:1] inputs.", K10 DIS4 (in) "Output Disable. Each input controls the state of the respective output bank. When HIGH, the output bank is disabled to the “HOLD-OFF” or “High Z” state; the disable state is determined by OUTPUT_MODE. When L(See Datasheet)"
part B pins: A8 VCCQ (power) "Internal Power. Power supply for the internal circuitry.", B1 VCCN (power) "Output Buffer Power. Power supply for each output pair.", B2 VCCN (power) "Output Buffer Power. Power supply for each output pair.", B3 VCCN (power) "Output Buffer Power. Power supply for each output pair.", B4 VCCN (power) "Output Buffer Power. Power supply for each output pair.", B5 VCCN (power) "Output Buffer Power. Power supply for each output pair.", B6 VCCN (power) "Output Buffer Power. Power supply for each output pair.", B7 VCCQ (power) "Internal Power. Power supply for the internal circuitry.", C1 GND (power) "Device Ground.", C2 GND (power) "Device Ground.", C3 GND (power) "Device Ground.", C4 GND (power) "Device Ground.", C5 GND (power) "Device Ground.", C6 GND (power) "Device Ground.", C7 VCCQ (power) "Internal Power. Power supply for the internal circuitry.", C8 GND (power) "Device Ground.", C9 GND (power) "Device Ground.", D4 GND (power) "Device Ground.", D8 VCCQ (power) "Internal Power. Power supply for the internal circuitry.", E2 VCCN (power) "Output Buffer Power. Power supply for each output pair.", E4 GND (power) "Device Ground.", E7 GND (power) "Device Ground.", E9 VCCN (power) "Output Buffer Power. Power supply for each output pair.", F2 VCCN (power) "Output Buffer Power. Power supply for each output pair.", F4 GND (power) "Device Ground.", F5 GND (power) "Device Ground.", F6 GND (power) "Device Ground.", F7 GND (power) "Device Ground.", F9 VCCN (power) "Output Buffer Power. Power supply for each output pair.", G3 VCCQ (power) "Internal Power. Power supply for the internal circuitry.", G4 GND (power) "Device Ground.", G5 GND (power) "Device Ground.", G6 GND (power) "Device Ground.", G7 GND (power) "Device Ground.", G8 VCCQ (power) "Internal Power. Power supply for the internal circuitry.", H4 VCCQ (power) "Internal Power. Power supply for the internal circuitry.", H5 GND (power) "Device Ground.", H6 GND (power) "Device Ground.", H7 VCCQ (power) "Internal Power. Power supply for the internal circuitry.", J5 VCCN (power) "Output Buffer Power. Power supply for each output pair.", J6 VCCN (power) "Output Buffer Power. Power supply for each output pair.", J7 GND (power) "Device Ground.", K4 VCCN (power) "Output Buffer Power. Power supply for each output pair.", K7 GND (power) "Device Ground."

## CY7B995AXC
designator U?
High-Speed Multi-Phase PLL Clock Buffer, 2.5 / 3.3 V, 8 Outputs, 6 to 200 MHz, 0 to 70 degC, 44-Pin TQFP (AX44), Tray; Manufacturer: Cypress; PartNumber: CY7B995AXC; Input Frequency Max. (MHz): 200; Input Frequency Min. (MHz): 6; Max. Operating Voltage (V): 3.63; Min. Operating Voltage (V): 2.25; No. of Outputs: 8; DatasheetVersion: Rev. *G; PackageReference: AX44; PackageDescription: 44-Pin Thin Plastic Quad Flatpack, Body 10 x 10 mm, Pitch 0.8 mm; Supplier 1: Digi-Key; Supplier Part Number 1: 428-2251-ND; Supplier 2: Newark; Supplier Part Number 2: 53M3522; Supplier 3: Mouser; Supplier Part Number 3: 727-CY7B995AXC; Max. Operating Temp. (degreesC): 70; Min. Operating Temp. (degreesC): 0; Output Frequency Max. (MHz): 200; Output Frequency Min. (MHz): 6; Packing: Tray; RoHS: Pb-Free; Mounting Technology: Surface Mount; Code_JEDEC: MS-026; ComponentLink1Description: Manufacturer URL; ComponentLink1URL: http://www.cypress.com/; ComponentLink2Description: Datasheet; ComponentLink2URL: http://www.cypress.com/?docID=48487; ComponentLink3Description: Package Specification; ComponentLink3URL: http://www.cypress.com/?docID=39206
footprint CYP-AX44_N (QFP, 44-Leads, Body 10x10mm, Pitch 0.8mm, IPC Medium Density)
footprint CYP-AX44_L (QFP, 44-Leads, Body 10x10mm, Pitch 0.8mm, IPC High Density)
footprint CYP-AX44_M (QFP, 44-Leads, Body 10x10mm, Pitch 0.8mm, IPC Low Density)
pins: 1 4F1 (in) "Selects Frequency and Phase of the Outputs. See Table 4, Table 5, Table 6, Table 8, and Table 9 on page 6.", 2 SOE# (in) "Synchronous Output Enable. When HIGH, it stops clock outputs (except 2Q0 and 2Q1) in a LOW state (for PE/HD = H or M) - 2Q0, and 2Q1 may be used as the feedback signal to maintain phase lock. When TEST is held at MID level (See Datasheet)", 3 PD#/DIV (in) "Power down and Reference Divider Control. When LOW, shuts off entire chip. When at MID level, enables the reference divider. See Table 2 for settings.", 4 PE/HD (in) "Selects Positive or Negative Edge Control, and High or Low output Drive Strength. When LOW/HIGH, the outputs are synchronized with the negative/positive edge of the reference clock respectively. When at MID level, the output (See Datasheet)", 5 VDDQ4 (power) "Power supply for Bank 4 Output Buffers. See Table 11 on page 7 for supply level constraints.", 6 VDDQ4 (power) "Power supply for Bank 4 Output Buffers. See Table 11 on page 7 for supply level constraints.", 7 4Q1 (out) "Four banks of two outputs. See Table 6 on page 6 for frequency settings.", 8 4Q0 (out) "Four banks of two outputs. See Table 6 on page 6 for frequency settings.", 9 VSS (power) "Ground", 10 VSS (power) "Ground", 11 VSS (power) "Ground", 12 VSS (power) "Ground", 13 3Q1 (out) "Four banks of two outputs. See Table 6 on page 6 for frequency settings.", 14 3Q0 (out) "Four banks of two outputs. See Table 6 on page 6 for frequency settings.", 15 VDDQ3 (power) "Power supply for Bank 3 Output Buffers. See Table 11 on page 7 for supply level constraints.", 16 VDDQ3 (power) "Power supply for Bank 3 Output Buffers. See Table 11 on page 7 for supply level constraints.", 17 FB (in) "Feedback Input.", 18 VDD (power) "Power supply for the Internal Circuitry. See Table 11 on page 7 for supply level constraints.", 19 VDDQ1 (power) "Power supply for Bank 1 and Bank 2 Output Buffers. See Table 11 on page 7 for supply level constraints.", 20 2Q1 (out) "Four banks of two outputs. See Table 6 on page 6 for frequency settings.", 21 2Q0 (out) "Four banks of two outputs. See Table 6 on page 6 for frequency settings.", 22 VSS (power) "Ground", 23 VSS (power) "Ground", 24 VSS (power) "Ground", 25 VSS (power) "Ground", 26 1Q1 (out) "Four banks of two outputs. See Table 6 on page 6 for frequency settings.", 27 1Q0 (out) "Four banks of two outputs. See Table 6 on page 6 for frequency settings.", 28 VDDQ1 (power) "Power supply for Bank 1 and Bank 2 Output Buffers. See Table 11 on page 7 for supply level constraints.", 29 VDDQ1 (power) "Power supply for Bank 1 and Bank 2 Output Buffers. See Table 11 on page 7 for supply level constraints.", 30 LOCK (out) "PLL Lock Indication Signal. HIGH indicates lock, LOW indicates the PLL is not locked, and outputs may not be synchronized to the input.", 31 DS0 (in) "Selects Feedback Divider. See Table 3 on page 6.", 32 DS1 (in) "Selects Feedback Divider. See Table 3 on page 6.", 33 1F0 (in) "Selects Frequency and Phase of the Outputs. See Table 4, Table 5, Table 6, Table 8, and Table 9 on page 6.", 34 1F1 (in) "Selects Frequency and Phase of the Outputs. See Table 4, Table 5, Table 6, Table 8, and Table 9 on page 6.", 35 2F0 (in) "Selects Frequency and Phase of the Outputs. See Table 4, Table 5, Table 6, Table 8, and Table 9 on page 6.", 36 2F1 (in) "Selects Frequency and Phase of the Outputs. See Table 4, Table 5, Table 6, Table 8, and Table 9 on page 6.", 37 TEST (in) "When MID or HIGH, disables PLL[2]. REF goes to all outputs. Set LOW for normal operation.", 38 VSS (power) "Ground", 39 REF (in) "Reference Clock Input.", 40 VDD (power) "Power supply for the Internal Circuitry. See Table 11 on page 7 for supply level constraints.", 41 FS (in) "Selects VCO Operating Frequency Range. See Table 7 on page 6.", 42 3F0 (in) "Selects Frequency and Phase of the Outputs. See Table 4, Table 5, Table 6, Table 8, and Table 9 on page 6.", 43 3F1 (in) "Selects Frequency and Phase of the Outputs. See Table 4, Table 5, Table 6, Table 8, and Table 9 on page 6.", 44 4F0 (in) "Selects Frequency and Phase of the Outputs. See Table 4, Table 5, Table 6, Table 8, and Table 9 on page 6."